# Altium footprint library PCB Base oximetro.PcbLib: 17 footprints (part 1 of 2)
Each footprint in its own frame and in the unit in brackets; x right, y up, seen from the top. Pads: shape width x height; smd on the part's side, far side on the other; paste and mask are expansions set on the pad; w line width, h text height; cw(c..) or ccw(c..) is an arc to the next point about the centre after c.
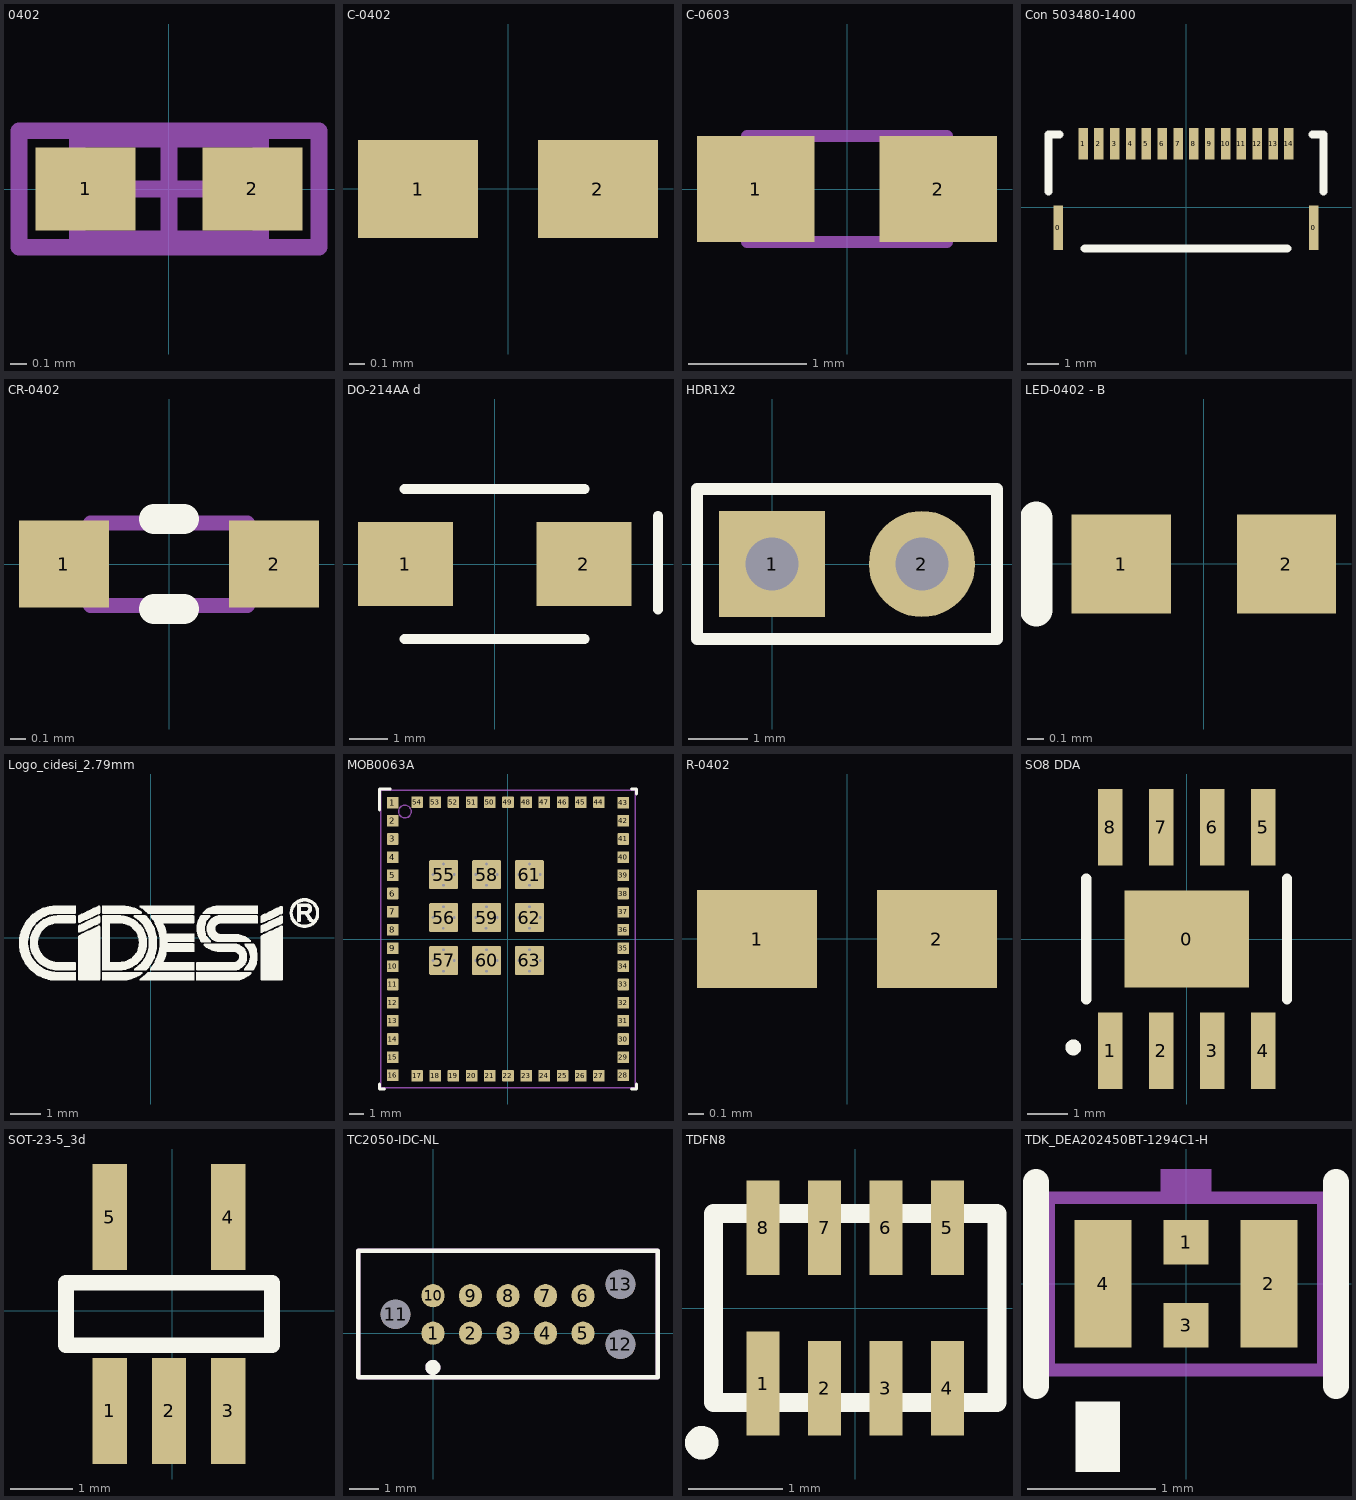
[diagram p0: the footprints below, top view; thin cyan lines are the x and y axes]

## 0402 [mm]
pads (2):
  rect 0.6x0.5 smd: 1(-0.5,0) 2(0.5,0)
Mechanical 13:
  lines w0.1: -0.55,-0.3 -0.55,0.3 0.55,0.3 0.55,-0.3 -0.55,-0.3
Mechanical 15:
  lines w0.1: -0.3,0 0.3,0 ; 0,-0.3 0,0.3 ; -0.9,-0.35 -0.9,0.35 0.9,0.35 0.9,-0.35 -0.9,-0.35
3D body: height 1.3, standoff 0, extent -0.55,-0.3 0.55,0.3

## C-0402 [mm]
pads (2):
  rect 0.8x0.65 smd: 1(-0.6,0) 2(0.6,0)
3D body: height 0.2, standoff 0, extent -0.5,-0.305 0.5,0.295

## C-0603 [mm]
pads (2):
  rect 1x0.9 smd: 1(-0.775,0) 2(0.775,0)
Mechanical 13:
  lines w0.1: -0.85,-0.45 -0.85,0.45 0.85,0.45 0.85,-0.45 -0.85,-0.45
3D body: height 0.87, standoff 0, extent -0.45,-0.45 0.45,0.45
3D body: height 0.87, standoff 0, extent -0.85,-0.45 -0.45,0.45
3D body: height 0.87, standoff 0, extent 0.45,-0.45 0.85,0.45

## Con 503480-1400 [mm]
pads (16):
  rect 0.3x1.4 smd: 0(-4.04,-0.65) 0(4.04,-0.65)
  rect 0.3x1 smd: 1(-3.25,2) 2(-2.75,2) 3(-2.25,2) 4(-1.75,2) 5(-1.25,2) 6(-0.75,2) 7(-0.25,2) 8(0.25,2) 9(0.75,2) 10(1.25,2) 11(1.75,2) 12(2.25,2) 13(2.75,2) 14(3.25,2)
Top Overlay:
  lines w0.254: -4.35,0.5 -4.35,2.3 -4,2.3 ; -3.2,-1.3 3.2,-1.3 ; 4,2.3 4.35,2.3 4.35,0.5
3D body: height 1.88, standoff -0.02, extent -4.35,-1.3 4.35,2.3

## CR-0402 [mm]
pads (2):
  rect 0.6x0.58 smd: 1(-0.7,0) 2(0.7,0)
Top Overlay:
  lines w0.2: -0.1,-0.3 0.1,-0.3 ; -0.1,0.3 0.1,0.3
Mechanical 13:
  lines w0.1: -0.525,-0.275 -0.525,0.275 0.525,0.275 0.525,-0.275 -0.525,-0.275
3D body: height 0.5, standoff 0, extent -0.425,-0.275 0.425,0.275
3D body: height 0.5, standoff 0, extent -0.525,-0.275 -0.425,0.275
3D body: height 0.5, standoff 0, extent 0.425,-0.275 0.525,0.275

## DO-214AA d [mm]
pads (2):
  rect 2.5x2.2 smd: 1(-2.35,0) 2(2.35,0)
Top Overlay:
  lines w0.254: -2.375,-1.975 2.375,-1.975 ; -2.375,1.975 2.375,1.975 ; 4.3,-1.2 4.3,1.275
3D body: height 2.65, standoff 0, extent -2.375,-1.975 2.375,1.975

## HDR1X2 [mm]
pads (2):
  rect 1.8x1.8 hole 0.9: 1(0,0)
  round 1.8 hole 0.9: 2(2.54,0)
Top Overlay:
  lines w0.2: -1.27,-1.27 -1.27,1.27 3.81,1.27 3.81,-1.27 -1.27,-1.27

## LED-0402 - B [mm]
pads (2):
  rect 0.6x0.6 smd: 1(-0.5,0) 2(0.5,0)
Top Overlay:
  lines w0.2: -1.016,-0.279 -1.016,0.279
3D body: height 0.35, standoff 0, extent -0.487,-0.254 0.513,0.246

## Logo_cidesi_2.79mm [mm]
Top Overlay:
  drawing of 1616 lines, arcs and shapes, not listed

## MOB0063A [mm]
pads (63):
  rrect12% 0.81x0.81 smd: 1(-8.05,9.525) 2(-8.05,8.255) 3(-8.05,6.985) 4(-8.05,5.715) 5(-8.05,4.445) 6(-8.05,3.175) 7(-8.05,1.905) 8(-8.05,0.635) 9(-8.05,-0.635) 10(-8.05,-1.905) 11(-8.05,-3.175) 12(-8.05,-4.445) 13(-8.05,-5.715) 14(-8.05,-6.985) 15(-8.05,-8.255) 16(-8.05,-9.525) 17(-6.35,-9.55) 18(-5.08,-9.55) 19(-3.81,-9.55) 20(-2.54,-9.55) 21(-1.27,-9.55) 22(0,-9.55) 23(1.27,-9.55) 24(2.54,-9.55) 25(3.81,-9.55) 26(5.08,-9.55) 27(6.35,-9.55) 28(8.05,-9.525) 29(8.05,-8.255) 30(8.05,-6.985) 31(8.05,-5.715) 32(8.05,-4.445) 33(8.05,-3.175) 34(8.05,-1.905) 35(8.05,-0.635) 36(8.05,0.635) 37(8.05,1.905) 38(8.05,3.175) 39(8.05,4.445) 40(8.05,5.715) 41(8.05,6.985) 42(8.05,8.255) 43(8.05,9.525) 44(6.35,9.55) 45(5.08,9.55) 46(3.81,9.55) 47(2.54,9.55) 48(1.27,9.55) 49(0,9.55) 50(-1.27,9.55) 51(-2.54,9.55) 52(-3.81,9.55) 53(-5.08,9.55) 54(-6.35,9.55)
  rrect5% 2x2 smd paste-1: 55(-4.5,4.5) 56(-4.5,1.5) 57(-4.5,-1.5) 58(-1.5,4.5) 59(-1.5,1.5) 60(-1.5,-1.5) 61(1.5,4.5) 62(1.5,1.5) 63(1.5,-1.5)
via -4.5,2.25 diameter 0.5 hole 0.2
via -5.25,1.5 diameter 0.5 hole 0.2
via -3.75,1.5 diameter 0.5 hole 0.2
via -4.525,0.75 diameter 0.5 hole 0.2
via -4.5,-0.75 diameter 0.5 hole 0.2
via -5.25,-1.5 diameter 0.5 hole 0.2
via -3.75,-1.5 diameter 0.5 hole 0.2
via -4.5,-2.25 diameter 0.5 hole 0.2
via -1.5,-2.25 diameter 0.5 hole 0.2
via -2.25,-1.5 diameter 0.5 hole 0.2
via -1.5,-0.75 diameter 0.5 hole 0.2
via -0.75,-1.5 diameter 0.5 hole 0.2
via 0.75,-1.5 diameter 0.5 hole 0.2
via 1.5,-0.75 diameter 0.5 hole 0.2
via 2.25,-1.5 diameter 0.5 hole 0.2
via 1.5,-2.25 diameter 0.5 hole 0.2
via 1.5,0.75 diameter 0.5 hole 0.2
via 0.75,1.5 diameter 0.5 hole 0.2
via 1.5,2.25 diameter 0.5 hole 0.2
via 2.25,1.5 diameter 0.5 hole 0.2
via -2.25,1.5 diameter 0.5 hole 0.2
via -1.5,2.25 diameter 0.5 hole 0.2
via -0.75,1.5 diameter 0.5 hole 0.2
via -1.525,0.75 diameter 0.5 hole 0.2
via -3.75,4.5 diameter 0.5 hole 0.2
via -5.25,4.5 diameter 0.5 hole 0.2
via -4.5,5.25 diameter 0.5 hole 0.2
via -4.5,3.75 diameter 0.5 hole 0.2
via -1.5,3.75 diameter 0.5 hole 0.2
via -2.25,4.5 diameter 0.5 hole 0.2
via -1.5,5.25 diameter 0.5 hole 0.2
via -0.75,4.5 diameter 0.5 hole 0.2
via 0.75,4.5 diameter 0.5 hole 0.2
via 1.5,5.25 diameter 0.5 hole 0.2
via 2.25,4.5 diameter 0.5 hole 0.2
via 1.5,3.75 diameter 0.5 hole 0.2
Top Overlay:
  lines w0.2: -8.975,-10.125 -8.975,-10.475 -8.625,-10.475 ; -8.975,9 -8.975,10.475 -8.225,10.475 ; 8.625,-10.475 8.975,-10.475 8.975,-10.125 ; 8.625,10.475 8.975,10.475 8.975,10.125
Top Paste:
  rectangle: -4.4,0.51 -3.51,1.4
  rectangle: -5.49,0.51 -4.6,1.4
  rectangle: -5.49,1.6 -4.6,2.49
  rectangle: -4.4,1.6 -3.51,2.49
  rectangle: -1.4,1.6 -0.51,2.49
  rectangle: -2.49,1.6 -1.6,2.49
  rectangle: -2.49,0.51 -1.6,1.4
  rectangle: -1.4,0.51 -0.51,1.4
  rectangle: 1.6,1.6 2.49,2.49
  rectangle: 0.51,1.6 1.4,2.49
  rectangle: 0.51,0.51 1.4,1.4
  rectangle: 1.6,0.51 2.49,1.4
  rectangle: 1.6,4.6 2.49,5.49
  rectangle: 0.51,4.6 1.4,5.49
  rectangle: 0.51,3.51 1.4,4.4
  rectangle: 1.6,3.51 2.49,4.4
  rectangle: -1.4,4.6 -0.51,5.49
  rectangle: -2.49,4.6 -1.6,5.49
  rectangle: -2.49,3.51 -1.6,4.4
  rectangle: -1.4,3.51 -0.51,4.4
  rectangle: -4.4,4.6 -3.51,5.49
  rectangle: -5.49,4.6 -4.6,5.49
  rectangle: -5.49,3.51 -4.6,4.4
  rectangle: -4.4,3.51 -3.51,4.4
  rectangle: -4.4,-1.4 -3.51,-0.51
  rectangle: -5.49,-1.4 -4.6,-0.51
  rectangle: -5.49,-2.49 -4.6,-1.6
  rectangle: -4.4,-2.49 -3.51,-1.6
  rectangle: -1.4,-1.4 -0.51,-0.51
  rectangle: -2.49,-1.4 -1.6,-0.51
  rectangle: -2.49,-2.49 -1.6,-1.6
  rectangle: -1.4,-2.49 -0.51,-1.6
  rectangle: 1.6,-1.4 2.49,-0.51
  rectangle: 0.51,-1.4 1.4,-0.51
  rectangle: 0.51,-2.49 1.4,-1.6
  rectangle: 1.6,-2.49 2.49,-1.6
Mechanical 5:
  circle w0.1: c-7.2,8.9 r0.447
  lines w0.1: -8.875,-10.375 8.875,-10.375 8.875,10.375 -8.875,10.375 -8.875,-10.375
3D body: height 2.45, standoff 0, extent -8.874,-10.374 8.874,10.374
3D body: height 2.46, standoff 2, extent -7.647,8.453 -6.753,9.347

## R-0402 [mm]
pads (2):
  rect 0.8x0.65 smd: 1(-0.6,0) 2(0.6,0)
3D body: height 0.2, standoff 0, extent -0.5,-0.305 0.5,0.295

## SO8 DDA [mm]
pads (9):
  rect 3.1x2.41 smd: 0(0,0)
  rect 0.61x1.91 smd: 1(-1.905,-2.78) 2(-0.635,-2.78) 3(0.635,-2.78) 4(1.905,-2.78) 5(1.905,2.78) 6(0.635,2.78) 7(-0.635,2.78) 8(-1.905,2.78)
Top Overlay:
  circle w0.254: c-2.825,-2.7 r0.071
  lines w0.254: -2.5,-1.5 -2.5,1.5 ; 2.5,-1.5 2.5,1.5
3D body: height 1.68, standoff 0, extent -2.5,-2 2.5,2

## SOT-23-5_3d [mm]
pads (5):
  rect 0.55x1.7 smd: 1(-1,-1.6) 2(-0.05,-1.6) 3(0.9,-1.6) 4(0.9,1.5) 5(-1,1.5)
Top Overlay:
  lines w0.254: -1.7,-0.55 1.6,-0.55 1.6,0.45 -1.7,0.45 -1.7,-0.55
3D body: height 1.45, standoff 0, extent -1.575,-0.925 1.475,0.825

## TC2050-IDC-NL [mil]
pads (13):
  round 31 smd mask+1.5: 1(0,0) 2(50,0) 3(100,0) 4(150,0) 5(200,0) 6(200,50) 7(150,50) 8(100,50) 9(50,50) 10(0,50)
  round 39.37 hole 39.37 unplated: 11(-50,25) 12(250,-15) 13(250,65)
Top Overlay:
  circle w10: c-0.25,-45.69 r5
  lines w6: -100,-58.86 300,-58.86 300,110 -100,110 -100,-58.86
Mechanical 1:
  circle w10: c-0.25,-45.69 r5
  lines w6: -100,-58.86 300,-58.86 300,110 -100,110 -100,-58.86

## TDFN8 [mm]
pads (8):
  rect 0.35x1.1 smd: 1(-0.975,-0.8)
  rect 0.35x1 smd: 2(-0.325,-0.85) 3(0.325,-0.85) 4(0.975,-0.85) 5(0.975,0.85) 6(0.325,0.85) 7(-0.325,0.85) 8(-0.975,0.85)
Top Overlay:
  circle w0.254: c-1.625,-1.425 r0.05
  lines w0.2: -1.5,-1 1.5,-1 1.5,1 -1.5,1 -1.5,-1
3D body: height 0.75, standoff 0, extent -1.5,-1 1.5,1

## TDK_DEA202450BT-1294C1-H [mm]
pads (4):
  rect 0.35x0.35 smd: 1(0,0.325) 3(0,-0.325)
  rect 0.45x1 smd: 2(0.65,0) 4(-0.65,0)
Top Overlay:
  region: -0.516,-1.472 -0.516,-0.922 -0.866,-0.922 -0.866,-1.472
  lines w0.2: -1.175,-0.8 -1.175,0.8 ; 1.175,-0.8 1.175,0.8
Mechanical 5:
  rectangle: -0.2,0.675 0.2,0.9
  lines w0.1: -1.075,-0.675 -1.075,0.675 1.075,0.675 1.075,-0.675 -1.075,-0.675
3D body: height 0.8, standoff 0.7, extent -0.8,-0.4 -0.2,0.4
3D body: height 0.8, standoff 0.7, extent -1.075,-0.675 1.075,0.675
3D body: height 0.7, standoff 0, extent -1.075,-0.675 1.075,0.675